# EAGLE library part AFRO_ESC (library quad)
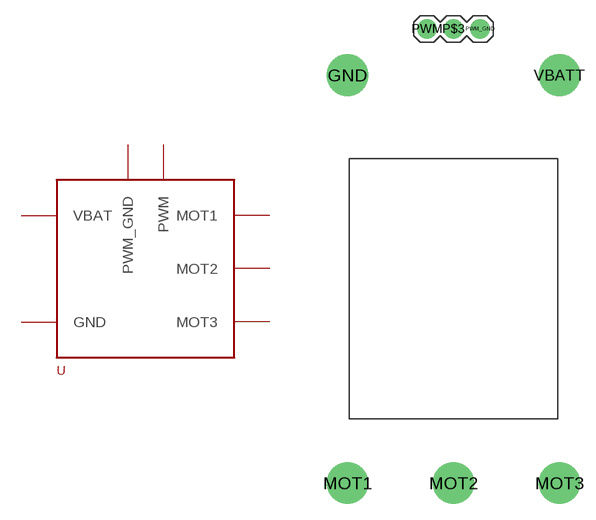
[diagram p2: symbol with the pads of AFRO_ESC; footprint AFRO_ESC]

Designator prefix -

## AFRO_ESC  [AFRO_ESC]
GND  GND
MOT1  MOT1
MOT2  MOT2
MOT3  MOT3
PWM  PWM
PWM_GND  PWM_GND
VBATT  VBAT

## Footprint AFRO_ESC (pad centres in mm)
drill 2 pad 4: GND -10.16,20.48; MOT1 -10.16,-18.655; MOT2 0,-18.655; MOT3 10.16,-18.655; VBATT 10.16,20.48
drill 1.016 pad 1.88: P$3 0,24.925; PWM -2.54,24.925; PWM_GND 2.54,24.925